# Altium schematic symbol library Resistors.SchLib: 45 symbols
Pins are listed as number, name and electrical type; pins without a type are passive.

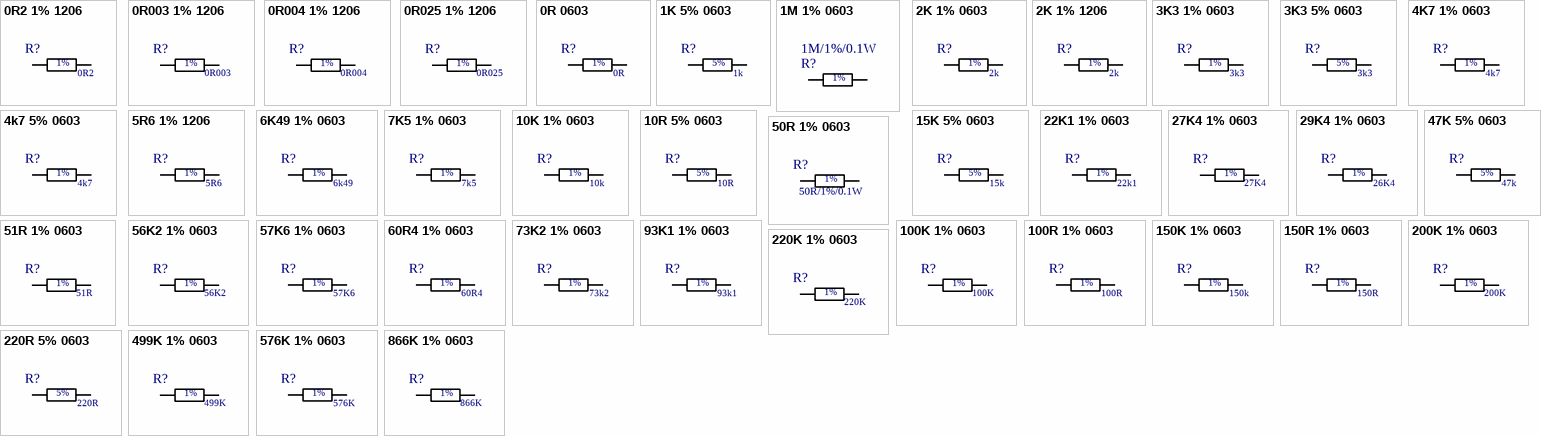
[diagram p0: symbols 0R2 1% 1206 to 866K 1% 0603]

## 0R2 1% 1206
designator R?  value 0R2  (hidden comment: 0R2 1% 1206)
Manufacturer Part Num: CRL1206-FW-R200ELF; ComponentLink1Description: Datasheet; Lötbarkeit RoHS: YES; Material RoHS: YES
footprint 1206RES (Chip Resistor 2-Leads, Body 3,3x1,7mm, IPC High Density)
pins: 1, 2
text: 1%

## 0R003 1% 1206
designator R?, comment value 0R003  (hidden comment: RFC1206 0R003 1% TC100 75V)
Chip Resistor, 0.1W; Part Specification: 0R003/1%/0.1W; ComponentLink1Description: Datasheet; Lötbarkeit RoHS: YES; Material RoHS: YES; Ordercode: RFC1206 0R003 1% TC100 75V
footprint 1206RES (Chip Resistor 2-Leads, Body 3,3x1,7mm, IPC High Density)
pins: 1, 2
text: 1%

## 0R004 1% 1206
designator R?, comment value 0R004  (hidden comment: RFC1206 0R004 1% TC100 75V)
Chip Resistor, 0.1W; Part Specification: 0R004/1%/0.1W; ComponentLink1Description: Datasheet; Lötbarkeit RoHS: YES; Material RoHS: YES; Ordercode: RFC1206 0R004 1% TC100 75V
footprint 1206RES (Chip Resistor 2-Leads, Body 3,3x1,7mm, IPC High Density)
pins: 1, 2
text: 1%

## 0R025 1% 1206
designator R?, comment value 0R025  (hidden comment: RFC1206 0R025 1% TC100 75V)
Chip Resistor, 0.1W; Part Specification: 0R025/1%/0.1W; ComponentLink1Description: Datasheet; Lötbarkeit RoHS: YES; Material RoHS: YES; Ordercode: RFC1206 0R025 1% TC100 75V
footprint 1206RES (Chip Resistor 2-Leads, Body 3,3x1,7mm, IPC High Density)
pins: 1, 2
text: 1%

## 0R 0603
designator R?  value 0R  (hidden comment: 0R 0603)
Manufacturer Part Num: MCWR06X000PTL; ComponentLink1Description: Datasheet; Lötbarkeit RoHS: YES; Material RoHS: YES
footprint 0603RES (Chip Resistor 2-Leads, Body 1,7x0,9mm, IPC High Density)
pins: 1, 2
text: 1%

## 1K 5% 0603
designator R?  value 1k  (hidden comment: 1K 5% 0603)
Manufacturer Part Num: RC0603JR-071KL; ComponentLink1Description: Datasheet; Lötbarkeit RoHS: YES; Material RoHS: YES
footprint 0603RES (Chip Resistor 2-Leads, Body 1,7x0,9mm, IPC High Density)
pins: 1, 2
text: 5%

## 1M 1% 0603
designator R?, comment Part Specification: 1M/1%/0.1W  (hidden comment: RFC0603 1M 1% TC100 75V)
Chip Resistor, 0.1W; ComponentLink1Description: Datasheet; Lötbarkeit RoHS: YES; Material RoHS: YES; Ordercode: RFC0603 1M 1% TC100 75V
footprint 0603RES (Chip Resistor 2-Leads, Body 1,7x0,9mm, IPC High Density)
pins: 1, 2
text: 1%

## 2K 1% 0603
designator R?  value 2k  (hidden comment: 2K 1% 0603)
Manufacturer Part Num: MCWR06X2001FTL; ComponentLink1Description: Datasheet; Lötbarkeit RoHS: YES; Material RoHS: YES
footprint 0603RES (Chip Resistor 2-Leads, Body 1,7x0,9mm, IPC High Density)
pins: 1, 2
text: 1%

## 2K 1% 1206
designator R?  value 2k  (hidden comment: 2K 1% 1206)
Manufacturer Part Num: WCR1206-2KFI; ComponentLink1Description: Datasheet; Lötbarkeit RoHS: YES; Material RoHS: YES
footprint 1206RES (Chip Resistor 2-Leads, Body 3,3x1,7mm, IPC High Density)
pins: 1, 2
text: 1%

## 3K3 1% 0603
designator R?, comment value 3k3  (hidden comment: 3K3 1% 0603 TC100)
3K3 1% 0603; Part Specification: 3K3/1%/0603; ComponentLink1Description: Datasheet; Lötbarkeit RoHS: YES; Material RoHS: YES; Ordercode: 3K3 1% 0603 TC100
footprint 0603RES (Chip Resistor 2-Leads, Body 1,7x0,9mm, IPC High Density)
pins: 1, 2
text: 1%

## 3K3 5% 0603
designator R?  value 3k3  (hidden comment: 3K3 5% 0603)
Manufacturer Part Num: RC0603JR-073K3L; ComponentLink1Description: Datasheet; Lötbarkeit RoHS: YES; Material RoHS: YES
footprint 0603RES (Chip Resistor 2-Leads, Body 1,7x0,9mm, IPC High Density)
pins: 1, 2
text: 5%

## 4K7 1% 0603
designator R?  value 4k7  (hidden comment: 4K7 1% 0603)
Manufacturer Part Num: MCWR06X1001FTL; ComponentLink1Description: Datasheet; Lötbarkeit RoHS: YES; Material RoHS: YES
footprint 0603RES (Chip Resistor 2-Leads, Body 1,7x0,9mm, IPC High Density)
pins: 1, 2
text: 1%

## 4k7 5% 0603
designator R?  value 4k7  (hidden comment: 4k7 5% 0603)
Manufacturer Part Num: RC0603JR-074K7L; ComponentLink1Description: Datasheet; Lötbarkeit RoHS: YES; Material RoHS: YES
footprint 0603RES (Chip Resistor 2-Leads, Body 1,7x0,9mm, IPC High Density)
pins: 1, 2
text: 1%

## 5R6 1% 1206
designator R?  value 5R6  (hidden comment: 5R6 1% 1206)
Manufacturer Part Num: MC0125W120615R60; ComponentLink1Description: Datasheet; Lötbarkeit RoHS: YES; Material RoHS: YES
footprint 1206RES (Chip Resistor 2-Leads, Body 3,3x1,7mm, IPC High Density)
pins: 1, 2
text: 1%

## 6K49 1% 0603
designator R?  value 6k49  (hidden comment: 6K49 1% 0603)
Manufacturer Part Num: ERJ3EKF6491V; ComponentLink1Description: Datasheet; Lötbarkeit RoHS: YES; Material RoHS: YES
footprint 0603RES (Chip Resistor 2-Leads, Body 1,7x0,9mm, IPC High Density)
pins: 1, 2
text: 1%

## 7K5 1% 0603
designator R?  value 7k5  (hidden comment: 7K5 1% 0603)
Manufacturer Part Num: MCWR06X7501FTL; ComponentLink1Description: Datasheet; Lötbarkeit RoHS: YES; Material RoHS: YES
footprint 0603RES (Chip Resistor 2-Leads, Body 1,7x0,9mm, IPC High Density)
pins: 1, 2
text: 1%

## 10K 1% 0603
designator R?  value 10k  (hidden comment: 10K 1% 0603)
Manufacturer Part Num: MCWR06X1002FTL; ComponentLink1Description: Datasheet; Lötbarkeit RoHS: YES; Material RoHS: YES
footprint 0603RES (Chip Resistor 2-Leads, Body 1,7x0,9mm, IPC High Density)
pins: 1, 2
text: 1%

## 10R 5% 0603
designator R?  value 10R  (hidden comment: 10R 5% 0603)
Manufacturer Part Num: RC0603JR-0710RL; ComponentLink1Description: Datasheet; Lötbarkeit RoHS: YES; Material RoHS: YES
footprint 0603RES (Chip Resistor 2-Leads, Body 1,7x0,9mm, IPC High Density)
pins: 1, 2
text: 5%

## 15K 5% 0603
designator R?  value 15k  (hidden comment: 15K 5% 0603)
Manufacturer Part Num: RC0603JR-0715KL; ComponentLink1Description: Datasheet; Lötbarkeit RoHS: YES; Material RoHS: YES
footprint 0603RES (Chip Resistor 2-Leads, Body 1,7x0,9mm, IPC High Density)
pins: 1, 2
text: 5%

## 22K1 1% 0603
designator R?  value 22k1  (hidden comment: 22K1 1% 0603)
Manufacturer Part Num: MCMR06X2212FTL; ComponentLink1Description: Datasheet; Lötbarkeit RoHS: YES; Material RoHS: YES
footprint 0603RES (Chip Resistor 2-Leads, Body 1,7x0,9mm, IPC High Density)
pins: 1, 2
text: 1%

## 27K4 1% 0603
designator R?, comment value 27K4  (hidden comment: RFC0603 27K4 1% TC100 75V)
Chip Resistor, 0.1W; Part Specification: 27K4/1%/0.1W; ComponentLink1Description: Datasheet; Lötbarkeit RoHS: YES; Material RoHS: YES; Ordercode: RFC0603 27K4 1% TC100 75V
footprint 0603RES (Chip Resistor 2-Leads, Body 1,7x0,9mm, IPC High Density)
pins: 1, 2
text: 1%

## 29K4 1% 0603
designator R?, comment value 26K4  (hidden comment: 26K4 1% 0603 TC100)
29K4 1% 0603; Part Specification: 26K4/1%/0603; ComponentLink1Description: Datasheet; Lötbarkeit RoHS: YES; Material RoHS: YES; Ordercode: 26K4 1% 0603 TC100
footprint 0603RES (Chip Resistor 2-Leads, Body 1,7x0,9mm, IPC High Density)
pins: 1, 2
text: 1%

## 47K 5% 0603
designator R?  value 47k  (hidden comment: 47K 5% 0603)
Manufacturer Part Num: RC0603JR-0747KL; ComponentLink1Description: Datasheet; Lötbarkeit RoHS: YES; Material RoHS: YES
footprint 0603RES (Chip Resistor 2-Leads, Body 1,7x0,9mm, IPC High Density)
pins: 1, 2
text: 5%

## 50R 1% 0603
designator R?, comment Part Specification: 50R/1%/0.1W  (hidden comment: RFC0603 50R 1% TC100 75V)
Chip Resistor, 0.1W; ComponentLink1Description: Datasheet; ComponentLink1URL: http://www.farnell.com/datasheets/2049244.pdf?_ga=1.244764421.1686358830.1472064101; Lötbarkeit RoHS: YES; Material RoHS: YES; Ordercode: RFC0603 50R 1% TC100 75V; Temperature Range: -55°C to +155°C
footprint 0603RES (Chip Resistor 2-Leads, Body 1,7x0,9mm, IPC High Density)
pins: 1, 2
text: 1%

## 51R 1% 0603
designator R?, comment value 51R  (hidden comment: RFC0603 51R 1% TC100 75V)
Chip Resistor, 0.1W; Manufacturer Part Num: MCWR06X2001FTL; Part Specification: 51R/1%/0.1W; ComponentLink1Description: Datasheet; Lötbarkeit RoHS: YES; Material RoHS: YES; Ordercode: RFC0603 51R 1% TC100 75V
footprint 0603RES (Chip Resistor 2-Leads, Body 1,7x0,9mm, IPC High Density)
pins: 1, 2
text: 1%

## 56K2 1% 0603
designator R?, comment value 56K2  (hidden comment: RFC0603 56K2 1% TC100 75V)
Chip Resistor, 0.1W; Part Specification: 56K2/1%/0.1W; ComponentLink1Description: Datasheet; Lötbarkeit RoHS: YES; Material RoHS: YES; Ordercode: RFC0603 56K2 1% TC100 75V
footprint 0603RES (Chip Resistor 2-Leads, Body 1,7x0,9mm, IPC High Density)
pins: 1, 2
text: 1%

## 57K6 1% 0603
designator R?, comment value 57K6  (hidden comment: RFC0603 57K6 1% TC100 75V)
Chip Resistor, 0.1W; Manufacturer Part Num: MCWR06X2001FTL; Part Specification: 57K6/1%/0.1W; ComponentLink1Description: Datasheet; Lötbarkeit RoHS: YES; Material RoHS: YES; Ordercode: RFC0603 57K6 1% TC100 75V
footprint 0603RES (Chip Resistor 2-Leads, Body 1,7x0,9mm, IPC High Density)
pins: 1, 2
text: 1%

## 60R4 1% 0603
designator R?  value 60R4  (hidden comment: 60R4 1% 0603)
Manufacturer Part Num: ERJ3EKF60R4V; ComponentLink1Description: Datasheet; Lötbarkeit RoHS: YES; Material RoHS: YES
footprint 0603RES (Chip Resistor 2-Leads, Body 1,7x0,9mm, IPC High Density)
pins: 1, 2
text: 1%

## 73K2 1% 0603
designator R?  value 73k2  (hidden comment: 73K2 1% 0603)
Manufacturer Part Num: ERJ3EKF7322V; ComponentLink1Description: Datasheet; Lötbarkeit RoHS: YES; Material RoHS: YES
footprint 0603RES (Chip Resistor 2-Leads, Body 1,7x0,9mm, IPC High Density)
pins: 1, 2
text: 1%

## 93K1 1% 0603
designator R?  value 93k1  (hidden comment: 93K1 1% 0603)
Manufacturer Part Num: MC0063W0603193K1; ComponentLink1Description: Datasheet; Lötbarkeit RoHS: YES; Material RoHS: YES
footprint 0603RES (Chip Resistor 2-Leads, Body 1,7x0,9mm, IPC High Density)
pins: 1, 2
text: 1%

## 100K 1% 0603
designator R?, comment value 100K  (hidden comment: RFC0603 100K 1% TC100 75V)
Chip Resistor, 0.1W; Manufacturer Part Num: MCWR06X2001FTL; Part Specification: 100K/1%/0.1W; ComponentLink1Description: Datasheet; Lötbarkeit RoHS: YES; Material RoHS: YES; Ordercode: RFC0603 100K 1% TC100 75V
footprint 0603RES (Chip Resistor 2-Leads, Body 1,7x0,9mm, IPC High Density)
pins: 1, 2
text: 1%

## 100R 1% 0603
designator R?  value 100R  (hidden comment: 100R 1% 0603)
Manufacturer Part Num: MCWR06X1000FTL; ComponentLink1Description: Datasheet; Lötbarkeit RoHS: YES; Material RoHS: YES
footprint 0603RES (Chip Resistor 2-Leads, Body 1,7x0,9mm, IPC High Density)
pins: 1, 2
text: 1%

## 150K 1% 0603
designator R?  value 150k  (hidden comment: 150K 1% 0603)
Manufacturer Part Num: MCWR06X1503FTL; ComponentLink1Description: Datasheet; Lötbarkeit RoHS: YES; Material RoHS: YES
footprint 0603RES (Chip Resistor 2-Leads, Body 1,7x0,9mm, IPC High Density)
pins: 1, 2
text: 1%

## 150R 1% 0603
designator R?  value 150R  (hidden comment: 150R 1% 0603)
Manufacturer Part Num: MCWR06X1500FTL; ComponentLink1Description: Datasheet; Lötbarkeit RoHS: YES; Material RoHS: YES
footprint 0603RES (Chip Resistor 2-Leads, Body 1,7x0,9mm, IPC High Density)
pins: 1, 2
text: 1%

## 200K 1% 0603
designator R?, comment value 200K  (hidden comment: RFC0603 200K 1% TC100 75V)
Chip Resistor, 0.1W; Part Specification: 200K/1%/0.1W; ComponentLink1Description: Datasheet; Lötbarkeit RoHS: YES; Material RoHS: YES; Ordercode: RFC0603 200K 1% TC100 75V
footprint 0603RES (Chip Resistor 2-Leads, Body 1,7x0,9mm, IPC High Density)
pins: 1, 2
text: 1%

## 220K 1% 0603
designator R?, comment value 220K  (hidden comment: RFC0603 220K 1% TC100 75V)
Chip Resistor, 0.1W; Part Specification: 220K/1%/0.1W; ComponentLink1Description: Datasheet; Lötbarkeit RoHS: YES; Material RoHS: YES; Ordercode: RFC0603 220K 1% TC100 75V
footprint 0603RES (Chip Resistor 2-Leads, Body 1,7x0,9mm, IPC High Density)
pins: 1, 2
text: 1%

## 220R 5% 0603
designator R?  value 220R  (hidden comment: 220R 5% 0603)
Manufacturer Part Num: RC0603JR-07220RL; ComponentLink1Description: Datasheet; Lötbarkeit RoHS: YES; Material RoHS: YES
footprint 0603RES (Chip Resistor 2-Leads, Body 1,7x0,9mm, IPC High Density)
pins: 1, 2
text: 5%

## 499K 1% 0603
designator R?, comment value 499K  (hidden comment: RFC0603 499K 1% TC100 75V)
Chip Resistor, 0.1W; Part Specification: 499K/1%/0.1W; ComponentLink1Description: Datasheet; Lötbarkeit RoHS: YES; Material RoHS: YES; Ordercode: RFC0603 499K 1% TC100 75V
footprint 0603RES (Chip Resistor 2-Leads, Body 1,7x0,9mm, IPC High Density)
pins: 1, 2
text: 1%

## 576K 1% 0603
designator R?, comment value 576K  (hidden comment: RFC0603 576K 1% TC100 75V)
Chip Resistor, 0.1W; Manufacturer Part Num: MCWR06X2001FTL; Part Specification: 576K/1%/0.1W; ComponentLink1Description: Datasheet; Lötbarkeit RoHS: YES; Material RoHS: YES; Ordercode: RFC0603 576K 1% TC100 75V
footprint 0603RES (Chip Resistor 2-Leads, Body 1,7x0,9mm, IPC High Density)
pins: 1, 2
text: 1%

## 866K 1% 0603
designator R?, comment value 866K  (hidden comment: RFC0603 866K 1% TC100 75V)
Chip Resistor, 0.1W; Manufacturer Part Num: MCWR06X2001FTL; Part Specification: 866K/1%/0.1W; ComponentLink1Description: Datasheet; Lötbarkeit RoHS: YES; Material RoHS: YES; Ordercode: RFC0603 866K 1% TC100 75V
footprint 0603RES (Chip Resistor 2-Leads, Body 1,7x0,9mm, IPC High Density)
pins: 1, 2
text: 1%

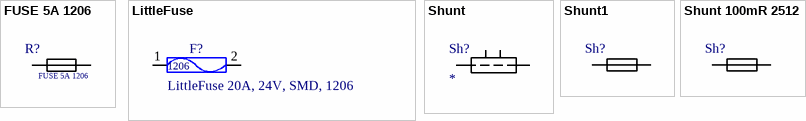
[diagram p1: symbols FUSE 5A 1206 to Shunt 100mR 2512]

## FUSE 5A 1206
designator R?, comment value FUSE 5A 1206  (hidden comment: MC12CF 005)
Chip Resistor, 0.1W; Manufacturer: MULTICOMP; Manufacturer Part Num: MC12CF 005; ComponentLink1Description: Datasheet; ComponentLink1URL: http://www.farnell.com/datasheets/1662505.pdf; Lötbarkeit RoHS: YES; Material RoHS: YES; Ordercode: MC12CF 005; Part Specification: FUSE 5A 1206; Temperature Range: -55°C to +125°C
footprint 1206RES (Chip Resistor 2-Leads, Body 3,3x1,7mm, IPC High Density)
pins: 1, 2

## LittleFuse
designator F?
LittleFuse 20A, 24V, SMD, 1206; Manufacturer: Schurter; Manufacturer Part Num: 3413.0331.22; ComponentLink1Description: Datasheet; Lötbarkeit RoHS: YES; Material RoHS: YES; ComponentLink1URL: http://www.mouser.com/ds/2/358/typ_UST_1206-793375.pdf; Ordercode: 3413.0331.22; Temperature Range: -55°C to +90°C; Part Specification: LittleFuse 20A, 24V, SMD, 1206
footprint Fuse 1206 (polyswitch, tyco nanoSMD, 1206(3216))
pins: 1 (power), 2 (power)
text: 1206

## Shunt
designator Sh?
ComponentLink1Description: Datasheet; ComponentLink1URL: http://www.farnell.com/datasheets/887652.pdf; Lötbarkeit RoHS: YES; Material RoHS: YES
footprint Panel Sunt
pins: 1, 2, 3, 4

## Shunt1
designator Sh?, comment Shunt  (value not drawn)
Value: 100mR; ComponentLink1Description: Datasheet; Lötbarkeit RoHS: YES; Material RoHS: YES
footprint 2512RES (Chip Resistor, 2-Leads, Body 6,40x3,20mm, IPC Medium Density)
footprint 0603RES (Chip Resistor 2-Leads, Body 1,7x0,9mm, IPC High Density)
pins: 1, 2

## Shunt 100mR 2512
designator Sh?  (value not drawn)
Manufacturer Part Num: ERJ1TRSJR10U; ComponentLink1Description: Datasheet; Lötbarkeit RoHS: YES; Material RoHS: YES; Value: 100mR
footprint 2512RES (Chip Resistor, 2-Leads, Body 6,40x3,20mm, IPC Medium Density)
footprint 0603RES (Chip Resistor 2-Leads, Body 1,7x0,9mm, IPC High Density)
pins: 1, 2